# Altium footprint library Connector_Card.PcbLib: 15 footprints
Each footprint in its own frame and in the unit in brackets; x right, y up, seen from the top. Pads: shape width x height; smd on the part's side, far side on the other; paste and mask are expansions set on the pad; w line width, h text height; cw(c..) or ccw(c..) is an arc to the next point about the centre after c.
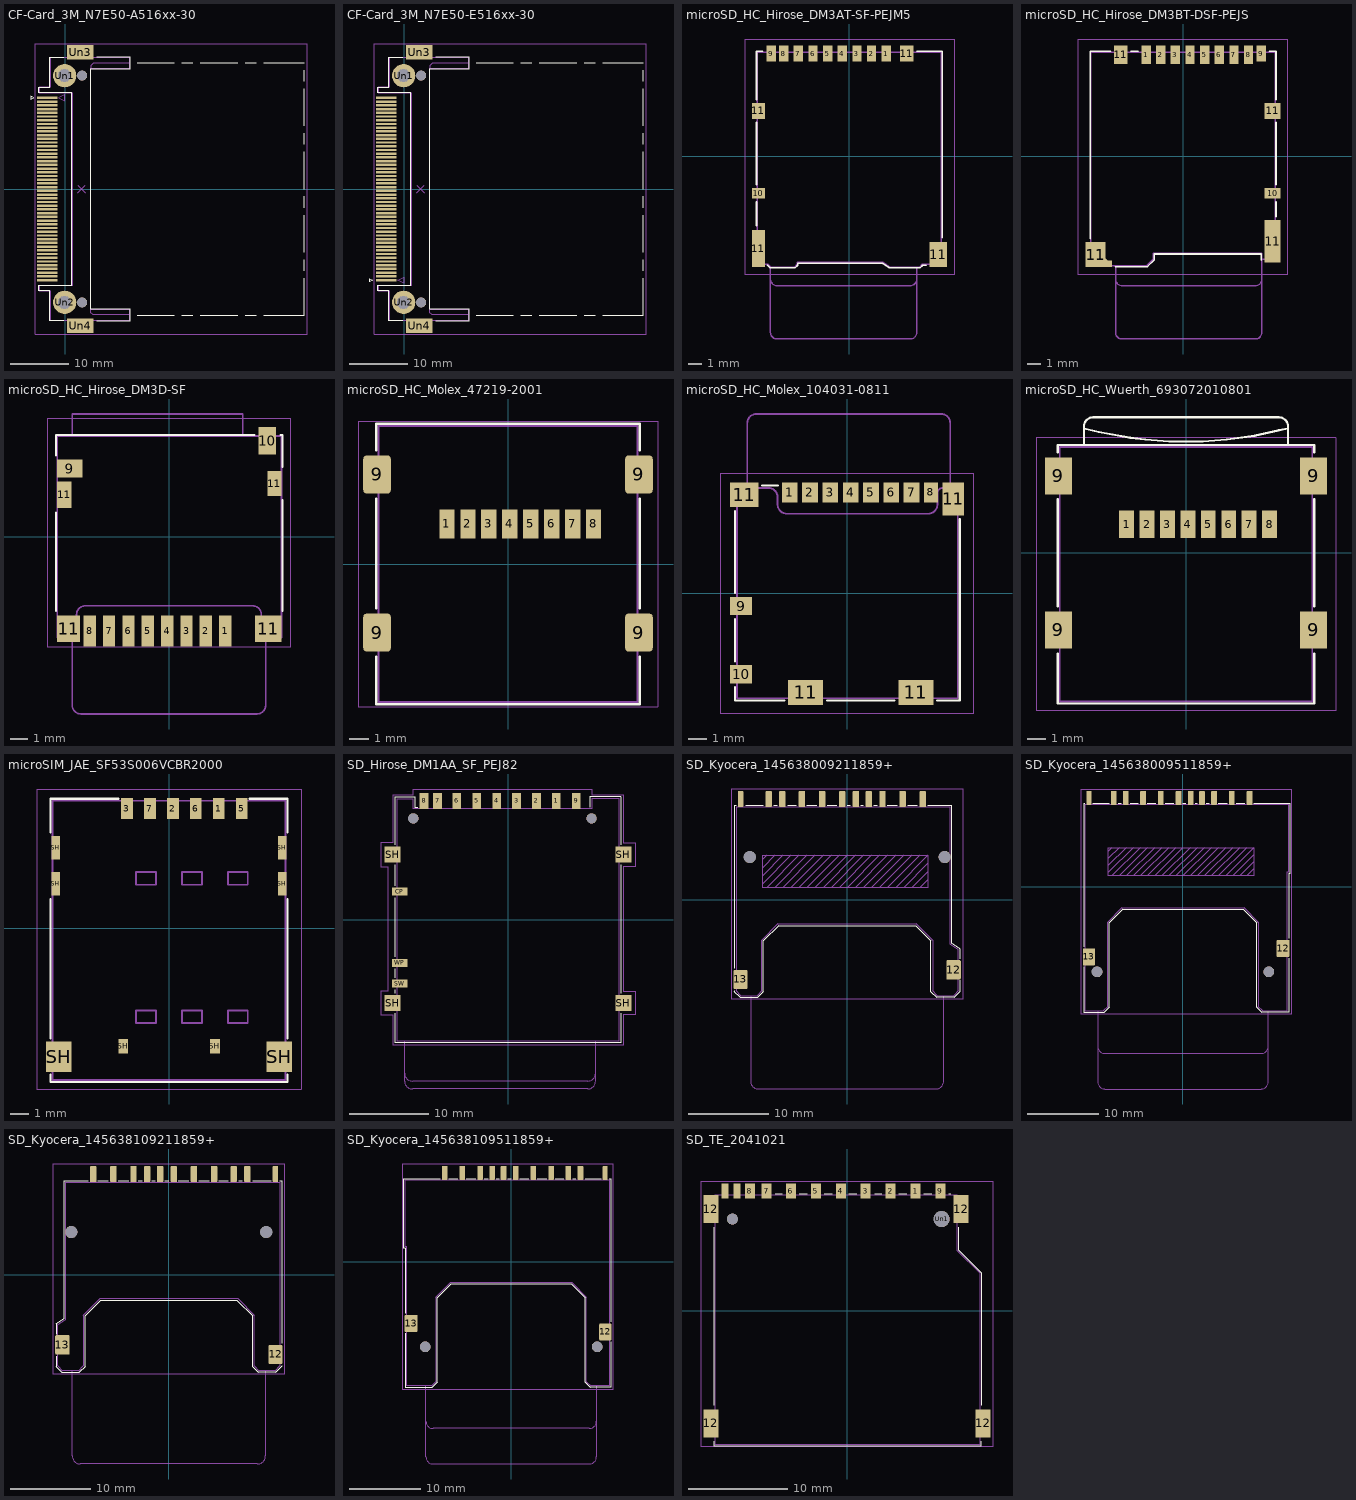
[diagram p0: the footprints below, top view; thin cyan lines are the x and y axes]

## CF-Card_3M_N7E50-A516xx-30 [mm]
pads (56):
  rect 3.51x0.41 smd: 1(-3.1,15.56) 2(-3.1,14.29) 3(-3.1,13.02) 4(-3.1,11.75) 5(-3.1,10.48) 6(-3.1,9.21) 7(-3.1,7.94) 8(-3.1,6.67) 9(-3.1,5.4) 10(-3.1,4.13) 11(-3.1,2.86) 12(-3.1,1.59) 13(-3.1,0.32) 14(-3.1,-0.95) 15(-3.1,-2.22) 16(-3.1,-3.49) 17(-3.1,-4.76) 18(-3.1,-6.03) 19(-3.1,-7.3) 20(-3.1,-8.57) 21(-3.1,-9.84) 22(-3.1,-11.11) 23(-3.1,-12.38) 24(-3.1,-13.65) 25(-3.1,-14.92) 26(-3.1,14.92) 27(-3.1,13.65) 28(-3.1,12.38) 29(-3.1,11.11) 30(-3.1,9.84) 31(-3.1,8.57) 32(-3.1,7.3) 33(-3.1,6.03) 34(-3.1,4.76) 35(-3.1,3.49) 36(-3.1,2.22) 37(-3.1,0.95) 38(-3.1,-0.32) 39(-3.1,-1.59) 40(-3.1,-2.86) 41(-3.1,-4.13) 42(-3.1,-5.4) 43(-3.1,-6.67) 44(-3.1,-7.94) 45(-3.1,-9.21) 46(-3.1,-10.48) 47(-3.1,-11.75) 48(-3.1,-13.02) 49(-3.1,-14.29) 50(-3.1,-15.56)
  round 3.99 hole 2.21: Un1(-0.1,19.37) Un2(-0.1,-19.37)
  rect 4.57x2.49 smd: Un3(2.57,23.34) Un4(2.57,-23.34)
  round 1.7 hole 1.7: Un5(2.9,19.37) Un6(2.9,-19.37)
F.SilkS:
  lines w0.12: -0.28,-22.48 -2.64,-22.48 -2.64,-17.42 -4.52,-17.42 -4.52,-16.41 1.09,-16.41 1.09,16.41 -4.52,16.41 -4.52,17.42 -2.64,17.42 -2.64,22.48 -0.28,22.48 ; 5.41,-22.48 11.08,-22.48 11.08,-20.55 4.4,-20.55 4.4,20.55 11.08,20.55 11.08,22.48 5.41,22.48 ; 12.3,-21.59 18.65,-21.59 ; 12.3,21.59 18.65,21.59 ; 19.92,-21.59 21.82,-21.59 ; 19.92,21.59 21.82,21.59 ; 23.09,-21.59 29.44,-21.59 ; 23.09,21.59 29.44,21.59 ; 30.71,-21.59 32.62,-21.59 ; 30.71,21.59 32.62,21.59 ; 33.89,-21.59 40.87,-21.59 40.87,-15.24 ; 33.89,21.59 40.87,21.59 ; 40.87,-13.97 40.87,-12.06 ; 40.87,-10.79 40.87,-4.45 ; 40.87,-3.17 40.87,-1.27 ; 40.87,0 40.87,6.35 ; 40.87,7.62 40.87,9.53 ; 40.87,10.79 40.87,17.14 ; 40.87,18.41 40.87,20.32 ; -5.85,15.31 -5.85,15.81 -5.35,15.56 -5.85,15.31
F.CrtYd:
  lines w0.05: -5.1,-24.8 -5.1,24.85 41.3,24.85 41.3,-24.8 -5.1,-24.8
F.Fab:
  lines w0.1: 2.14,-0.64 3.41,0.64 ; 2.14,0.64 3.41,-0.64 ; 4.32,20.55 4.32,21.05 4.77,21.5 11.02,21.5 ; 11.02,-21.5 4.77,-21.5 4.37,-21.1 4.32,-21.05 4.32,-20.6 ; 4.32,-20.6 4.32,20.6 11.02,20.6 11.02,22.4 -2.58,22.4 -2.58,17.4 -4.43,17.4 -4.43,16.45 1.17,16.45 1.17,-16.5 -4.43,-16.5 -4.43,-17.35 -2.58,-17.35 -2.58,-22.4 11.02,-22.4 11.02,-20.6 4.32,-20.6 ; -1.1,15.56 -0.1,15.06 -0.1,16.06 -1.1,15.56
  text "'.Designator'" at 1.375,-4.047 h1

## CF-Card_3M_N7E50-E516xx-30 [mm]
pads (56):
  rect 3.51x0.41 smd: 1(-3.1,-15.56) 2(-3.1,-14.29) 3(-3.1,-13.02) 4(-3.1,-11.75) 5(-3.1,-10.48) 6(-3.1,-9.21) 7(-3.1,-7.94) 8(-3.1,-6.67) 9(-3.1,-5.4) 10(-3.1,-4.13) 11(-3.1,-2.86) 12(-3.1,-1.59) 13(-3.1,-0.32) 14(-3.1,0.95) 15(-3.1,2.22) 16(-3.1,3.49) 17(-3.1,4.76) 18(-3.1,6.03) 19(-3.1,7.3) 20(-3.1,8.57) 21(-3.1,9.84) 22(-3.1,11.11) 23(-3.1,12.38) 24(-3.1,13.65) 25(-3.1,14.92) 26(-3.1,-14.92) 27(-3.1,-13.65) 28(-3.1,-12.38) 29(-3.1,-11.11) 30(-3.1,-9.84) 31(-3.1,-8.57) 32(-3.1,-7.3) 33(-3.1,-6.03) 34(-3.1,-4.76) 35(-3.1,-3.49) 36(-3.1,-2.22) 37(-3.1,-0.95) 38(-3.1,0.32) 39(-3.1,1.59) 40(-3.1,2.86) 41(-3.1,4.13) 42(-3.1,5.4) 43(-3.1,6.67) 44(-3.1,7.94) 45(-3.1,9.21) 46(-3.1,10.48) 47(-3.1,11.75) 48(-3.1,13.02) 49(-3.1,14.29) 50(-3.1,15.56)
  round 3.99 hole 2.21: Un1(-0.1,19.37) Un2(-0.1,-19.37)
  rect 4.57x2.49 smd: Un3(2.57,23.34) Un4(2.57,-23.34)
  round 1.7 hole 1.7: Un5(2.9,19.37) Un6(2.9,-19.37)
F.SilkS:
  lines w0.12: -0.28,-22.48 -2.64,-22.48 -2.64,-17.42 -4.52,-17.42 -4.52,-16.41 1.09,-16.41 1.09,16.41 -4.52,16.41 -4.52,17.42 -2.64,17.42 -2.64,22.48 -0.28,22.48 ; 5.41,-22.48 11.08,-22.48 11.08,-20.55 4.4,-20.55 4.4,20.55 11.08,20.55 11.08,22.48 5.41,22.48 ; 12.3,-21.59 18.65,-21.59 ; 12.3,21.59 18.65,21.59 ; 19.92,-21.59 21.82,-21.59 ; 19.92,21.59 21.82,21.59 ; 23.09,-21.59 29.44,-21.59 ; 23.09,21.59 29.44,21.59 ; 30.71,-21.59 32.62,-21.59 ; 30.71,21.59 32.62,21.59 ; 33.89,-21.59 40.87,-21.59 40.87,-15.24 ; 33.89,21.59 40.87,21.59 ; 40.87,-13.97 40.87,-12.06 ; 40.87,-10.79 40.87,-4.45 ; 40.87,-3.17 40.87,-1.27 ; 40.87,0 40.87,6.35 ; 40.87,7.62 40.87,9.53 ; 40.87,10.79 40.87,17.14 ; 40.87,18.41 40.87,20.32 ; -5.85,-15.81 -5.85,-15.31 -5.35,-15.56 -5.85,-15.81
F.CrtYd:
  lines w0.05: -5.1,-24.8 -5.1,24.85 41.3,24.85 41.3,-24.8 -5.1,-24.8
F.Fab:
  lines w0.1: 2.14,-0.64 3.41,0.64 ; 2.14,0.64 3.41,-0.64 ; 4.32,20.55 4.32,21.05 4.77,21.5 11.02,21.5 ; 11.02,-21.5 4.77,-21.5 4.37,-21.1 4.32,-21.05 4.32,-20.6 ; 4.32,-20.6 4.32,20.6 11.02,20.6 11.02,22.4 -2.58,22.4 -2.58,17.4 -4.43,17.4 -4.43,16.45 1.17,16.45 1.17,-16.5 -4.43,-16.5 -4.43,-17.35 -2.58,-17.35 -2.58,-22.4 11.02,-22.4 11.02,-20.6 4.32,-20.6 ; -1.1,-15.56 -0.1,-15.06 -0.1,-16.06 -1.1,-15.56
  text "'.Designator'" at 1.375,-4.047 h1

## microSD_HC_Hirose_DM3AT-SF-PEJM5 [mm]
pads (14):
  rect 0.7x1.2 smd: 1(2.775,7.725) 2(1.675,7.725) 3(0.575,7.725) 4(-0.525,7.725) 5(-1.625,7.725) 6(-2.725,7.725) 7(-3.825,7.725) 8(-4.925,7.725) 9(-5.875,7.725)
  rect 1x0.8 smd: 10(-6.825,-2.775)
  rect 1x2.8 smd: 11(-6.825,-6.925)
  rect 1x1.2 smd: 11(-6.825,3.425) 11(4.325,7.725)
  rect 1.3x1.9 smd: 11(6.675,-7.375)
F.SilkS:
  lines w0.12: -6.975,-5.225 -6.975,-3.425 ; -6.975,-2.125 -6.975,2.575 ; -6.975,4.275 -6.975,7.885 -6.525,7.885 ; -6.145,-8.185 -5.945,-8.385 -4.085,-8.385 -3.875,-8.185 -3.875,-8.035 2.495,-8.035 3.005,-8.385 5.315,-8.385 5.515,-8.185 5.775,-8.185 ; 5.075,7.885 6.995,7.885 6.995,-6.125
F.CrtYd:
  lines w0.05: -7.82,-8.88 -7.82,8.82 7.88,8.82 7.88,-8.88 -7.82,-8.88
F.Fab:
  lines w0.1: -5.925,-9.225 ccw(c-5.425,-9.225) -5.425,-9.725 4.575,-9.725 ccw(c4.575,-9.225) 5.075,-9.225 ; -5.925,-8.325 -5.925,-13.225 ccw(c-5.425,-13.225) -5.425,-13.725 4.575,-13.725 ccw(c4.575,-13.225) 5.075,-13.225 5.075,-8.325 ; -6.925,-8.125 -6.115,-8.125 -5.915,-8.325 -4.115,-8.325 -3.915,-8.125 -3.915,-7.975 2.51,-7.975 3.035,-8.325 5.285,-8.325 5.485,-8.125 6.925,-8.125 6.925,7.825 -6.925,7.825 -6.925,-8.125
  text "'.Designator'" at -4.072,-1.165 h1
Cmts.User:
  text "KEEPOUT" at -6.46,1.373 h0.6
  text "KEEPOUT" at -5.385,-4.252 h0.6
  text "KEEPOUT" at -4.153,1.325 h1
  text "KEEPOUT" at 2.949,-7.91 h0.4

## microSD_HC_Hirose_DM3BT-DSF-PEJS [mm]
pads (16):
  rect 0.7x1.4 smd: 1(-2.775,7.625) 2(-1.675,7.625) 3(-0.575,7.625) 4(0.525,7.625) 5(1.625,7.625) 6(2.725,7.625) 7(3.825,7.625) 8(4.925,7.625)
  rect 0.7x1.2 smd: 9(5.875,7.725)
  rect 1.2x0.8 smd: 10(6.725,-2.775)
  rect 1.5x1.9 smd: 11(-6.575,-7.375)
  rect 0.2x0.2 smd rot 45: 11(-5.825,-7.825)
  rect 0.5x0.5 smd: 11(-5.575,-8.075)
  rect 1x1.4 smd: 11(-4.675,7.625)
  rect 1.2x3.2 smd: 11(6.725,-6.375)
  rect 1.2x1.2 smd: 11(6.725,3.425)
F.SilkS:
  lines w0.12: -6.985,-6.175 -6.985,7.885 -5.425,7.885 ; -5.075,-8.285 -2.675,-8.285 ; -3.925,7.885 -3.375,7.885 ; -2.665,-8.275 -2.165,-7.785 -2.165,-7.335 5.865,-7.335 5.865,-7.785 ; 6.475,7.885 6.985,7.885 6.985,4.275 ; 6.985,-4.525 6.985,-3.425 ; 6.985,-2.125 6.985,2.575
F.CrtYd:
  lines w0.05: -7.88,-8.88 -7.88,8.82 7.82,8.82 7.82,-8.88 -7.88,-8.88
F.Fab:
  lines w0.1: -5.075,-9.225 ccw(c-4.575,-9.225) -4.575,-9.725 5.425,-9.725 ccw(c5.425,-9.225) 5.925,-9.225 ; -5.075,-8.225 -5.075,-13.225 ccw(c-4.575,-13.225) -4.575,-13.725 5.425,-13.725 ccw(c5.425,-13.225) 5.925,-13.225 5.925,-7.275 -2.225,-7.275 -2.225,-7.725 -2.725,-8.225 -6.925,-8.225 -6.925,7.825 6.925,7.825 6.925,-7.725 5.925,-7.725
  text "'.Designator'" at -3.672,-2.365 h1
Cmts.User:
  text "KEEPOUT" at 7.17,1.691 h0.5

## microSD_HC_Hirose_DM3D-SF [mm]
pads (14):
  rect 0.7x1.75 smd: 1(3.175,-5.35) 2(2.075,-5.35) 3(0.975,-5.35) 4(-0.125,-5.35) 5(-1.225,-5.35) 6(-2.325,-5.35) 7(-3.425,-5.35) 8(-4.525,-5.35)
  rect 1.45x1 smd: 9(-5.65,3.875)
  rect 1x1.55 smd: 10(5.575,5.45)
  rect 0.8x1.5 smd: 11(-5.975,2.375)
  rect 1.3x1.5 smd: 11(-5.725,-5.225)
  rect 1.5x1.5 smd: 11(5.625,-5.225)
  rect 0.8x1.4 smd: 11(5.975,3.025)
F.SilkS:
  lines w0.12: -6.435,-4.225 -6.435,1.375 ; -6.435,4.625 -6.435,5.785 4.825,5.785 ; 6.325,5.785 6.435,5.785 6.435,3.975 ; 6.435,-4.225 6.435,2.075
F.CrtYd:
  lines w0.05: -6.92,-6.28 6.88,-6.28 6.88,6.72 -6.92,6.72 -6.92,-6.28
F.Fab:
  lines w0.1: -5.525,5.725 -5.525,6.975 4.175,6.975 4.175,5.725 ; -5.525,-5.725 -5.525,-9.575 ccw(c-5.025,-9.575) -5.025,-10.075 4.975,-10.075 ccw(c4.975,-9.575) 5.475,-9.575 5.475,-5.725 ; -5.525,-5.725 -6.375,-5.725 -6.375,5.725 6.375,5.725 6.375,-5.725 5.475,-5.725 ; -5.525,-5.725 ccw(c-5.525,-5.475) -5.275,-5.475 -5.275,-4.425 cw(c-4.775,-4.425) -4.775,-3.925 4.725,-3.925 cw(c4.725,-4.425) 5.225,-4.425 5.225,-5.475 ccw(c5.475,-5.475) 5.475,-5.725
  text "'.Designator'" at -4.022,-2.265 h1
Cmts.User:
  text "KEEPOUT" at -3.353,-0.075 h1
  text "KEEPOUT" at -1.976,4.54 h0.4

## microSD_HC_Molex_47219-2001 [mm]
pads (12):
  rect 0.8x1.5 smd: 1(-3.205,2.1) 2(-2.105,2.1) 3(-1.005,2.1) 4(0.095,2.1) 5(1.195,2.1) 6(2.295,2.1) 7(3.395,2.1) 8(4.495,2.1)
  rrect25% 1.45x2 smd: 9(-6.875,-3.6) 9(-6.875,4.7) 9(6.875,-3.6) 9(6.875,4.7)
F.SilkS:
  lines w0.12: -6.91,-4.86 -6.91,-7.36 6.91,-7.36 6.91,-4.86 ; -6.91,-2.34 -6.91,3.44 ; -6.91,5.96 -6.91,7.36 6.91,7.36 6.91,5.96 ; 6.91,-2.34 6.91,3.44
F.CrtYd:
  lines w0.05: -7.85,-7.5 -7.85,7.5 7.85,7.5 7.85,-7.5 -7.85,-7.5
F.Fab:
  lines w0.1: -6.8,-7.25 6.8,-7.25 6.8,7.25 -6.8,7.25 -6.8,-7.25
  text "'.Designator'" at -4.047,-0.84 h1

## microSD_HC_Molex_104031-0811 [mm]
pads (14):
  rect 0.85x1.1 smd: 1(-3.105,5.45) 2(-2.005,5.45) 3(-0.905,5.45) 4(0.195,5.45) 5(1.295,5.45) 6(2.395,5.45) 7(3.495,5.45)
  rect 0.75x1.1 smd: 8(4.545,5.45)
  rect 1.2x1 smd: 9(-5.74,-0.7) 10(-5.74,-4.4)
  rect 1.55x1.35 smd: 11(-5.565,5.325)
  rect 1.9x1.35 smd: 11(-2.24,-5.375) 11(3.73,-5.375)
  rect 1.17x1.8 smd: 11(5.755,5.1)
F.SilkS:
  lines w0.12: -6.07,-5.1 -6.07,-5.82 -3.39,-5.82 ; -6.07,-3.7 -6.07,-1.4 ; -6.07,0 -6.07,4.45 ; -4.59,5.82 -3.73,5.82 ; -1.09,-5.82 2.58,-5.82 ; 4.88,-5.82 6.11,-5.82 6.11,4
F.CrtYd:
  lines w0.05: -6.84,-6.55 6.84,-6.55 6.84,6.5 -6.84,6.5 -6.84,-6.55
F.Fab:
  lines w0.1: -5.405,5.7 -5.405,9.2 cw(c-4.905,9.2) -4.905,9.7 5.095,9.7 cw(c5.095,9.2) 5.595,9.2 5.595,5.7 ; 5.2,5.7 ccw(c5.2,5.4) 4.9,5.4 4.9,4.8 cw(c4.4,4.8) 4.4,4.3 -3.26,4.3 cw(c-3.26,4.8) -3.76,4.8 -3.76,5.2 ccw(c-4.26,5.2) -4.26,5.7 -5.955,5.7 -5.955,-5.7 5.995,-5.7 5.995,5.7 5.21,5.7
  text "'.Designator'" at -4.047,-0.84 h1

## microSD_HC_Wuerth_693072010801 [mm]
pads (12):
  rect 0.8x1.5 smd: 1(-3.2,1.55) 2(-2.1,1.55) 3(-1,1.55) 4(0.1,1.55) 5(1.2,1.55) 6(2.3,1.55) 7(3.4,1.55) 8(4.5,1.55)
  rect 1.45x2 smd: 9(-6.875,-4.15) 9(-6.875,4.15) 9(6.875,-4.15) 9(6.875,4.15)
F.SilkS:
  lines w0.12: -6.91,-5.41 -6.91,-8.11 6.91,-8.11 6.91,-5.41 ; -6.91,-2.89 -6.91,2.89 ; -6.91,5.41 -6.91,5.81 6.91,5.81 6.91,5.41 ; -5.5,5.81 -5.5,6.81 cw(c-5,6.81) -5,7.31 5,7.31 cw(c5,6.81) 5.5,6.81 5.5,5.81 ; -5.5,6.71 -4.7,6.51 -3,6.21 -2.2,6.11 -0.9,6.01 0.9,6.01 2.2,6.11 3.7,6.31 5,6.61 5.5,6.71 ; 6.91,-2.89 6.91,2.89
F.CrtYd:
  lines w0.05: -8.08,-8.5 8.08,-8.5 8.08,6.2 -8.08,6.2 -8.08,-8.5
F.Fab:
  lines w0.1: -6.8,-8 -6.8,5.7 6.8,5.7 6.8,-8 -6.8,-8
  text "'.Designator'" at -4.047,-1.99 h1

## microSIM_JAE_SF53S006VCBR2000 [mm]
pads (14):
  rect 0.65x1.15 smd: 1(2.755,6.62) 2(0.215,6.62) 3(-2.325,6.62) 5(4.025,6.62) 6(1.485,6.62) 7(-1.055,6.62)
  rect 0.45x1.3 smd: SH(-6.27,2.45) SH(-6.27,4.45) SH(6.27,2.45) SH(6.27,4.45)
  rect 1.4x1.7 smd: SH(-6.105,-7.11) SH(6.105,-7.11)
  rect 0.54x0.8 smd: SH(-2.535,-6.53) SH(2.545,-6.53)
F.SilkS:
  lines w0.12: -6.56,-8.1 -6.56,-8.51 6.56,-8.51 6.56,-8.1 ; -6.56,-6.1 -6.56,1.6 ; -6.56,5.3 -6.56,7.16 -2.8,7.16 ; 4.45,7.16 6.56,7.16 6.56,5.3 ; 6.56,-6.1 6.56,1.6
Dwgs.User:
  lines w0.1: -1.82,-5.25 -0.72,-5.25 -0.72,-4.55 -1.82,-4.55 -1.82,-5.25 ; -1.82,2.4 -1.82,3.1 -0.72,3.1 -0.72,2.4 -1.82,2.4 ; 0.72,-5.25 1.82,-5.25 1.82,-4.55 0.72,-4.55 0.72,-5.25 ; 0.72,2.4 1.82,2.4 1.82,3.1 0.72,3.1 0.72,2.4 ; 3.26,-5.25 4.36,-5.25 4.36,-4.55 3.26,-4.55 3.26,-5.25 ; 3.26,2.4 3.26,3.1 4.36,3.1 4.36,2.4 3.26,2.4
F.CrtYd:
  lines w0.05: -7.31,-8.9 -7.31,7.7 7.31,7.7 7.31,-8.9 -7.31,-8.9
F.Fab:
  lines w0.1: -6.45,-8.4 6.45,-8.4 6.45,7.05 -6.45,7.05 -6.45,-8.4
  text "'.Designator'" at -4.047,-0.84 h1

## SD_Hirose_DM1AA_SF_PEJ82 [mm]
pads (18):
  rect 1.1x2 smd: 1(6.075,14.95) 2(3.575,14.95) 3(1.075,14.95) 4(-1.425,14.95) 5(-3.925,14.95) 6(-6.425,14.95) 7(-8.85,14.95) 8(-10.55,14.95) 9(8.575,14.95)
  rect 2x1 smd: CP(-13.6,3.55) SW(-13.6,-8) WP(-13.6,-5.4)
  rect 2x2 smd: SH(-14.5,-10.45) SH(-14.5,8.2) SH(14.5,-10.45) SH(14.5,8.2)
  round 1.3 hole 1.3: Un1(10.5,12.75) Un2(-11.9,12.75)
F.SilkS:
  lines w0.12: -14.2,-11.71 -14.2,-15.45 14.2,-15.45 14.2,-11.71 ; -14.2,-9.19 -14.2,-8.76 ; -14.2,-7.24 -14.2,-6.16 ; -14.2,-4.63 -14.2,2.79 ; -14.2,4.31 -14.2,6.94 ; -14.2,9.46 -14.2,15.45 -11.7,15.45 -11.7,14.15 -11.36,14.15 ; 10.3,14.15 10.3,15.45 14.2,15.45 14.2,9.46 ; 14.19,6.94 14.2,-9.19
Dwgs.User:
  lines w0.1: -13,-19.25 ccw(c-12,-19.25) -12,-20.25 10,-20.25 ccw(c10,-19.25) 11,-19.25 ; -13,-15.25 -13,-20.25 ccw(c-12,-20.25) -12,-21.25 10,-21.25 ccw(c10,-20.25) 11,-20.25 11,-15.25
F.CrtYd:
  lines w0.05: -16,-11.95 -16,-8.95 -15.1,-8.95 -15.1,6.7 -16,6.7 -16,9.7 -14.5,9.7 -14.5,15.75 -11.9,15.75 -11.9,16.45 10.5,16.45 10.5,15.75 14.5,15.75 14.5,9.7 16,9.7 16,6.7 14.5,6.7 14.5,-8.95 16,-8.95 16,-11.95 14.5,-11.95 14.5,-15.75 -14.5,-15.75 -14.5,-11.95 -16,-11.95
F.Fab:
  lines w0.1: -14,-15.25 -14,15.25 -11.9,15.25 -11.9,13.95 10.5,13.95 10.5,15.25 14,15.25 14,-15.25 -14,-15.25
  text "'.Designator'" at -4.047,-0.84 h1

## SD_Kyocera_145638009211859+ [mm]
pads (15):
  rrect31% 0.8x2 smd: 1(6.88,12.5) 2(4.38,12.5) 3(1.08,12.5) 4(-0.62,12.5) 5(-3.12,12.5) 6(-5.62,12.5) 7(-8.05,12.5) 8(-9.75,12.5) 9(9.38,12.5) 10(2.68,12.5)
  rrect36% 0.7x2 smd: 11(-13.24,12.5)
  rrect14% 1.8x2.4 smd: 12(13.2,-8.7)
  rrect15% 1.7x2.4 smd: 13(-13.25,-9.9)
  round 1.5 hole 1.5: Un1(12.1,5.3) Un2(-12.1,5.3)
F.SilkS:
  lines w0.12: -14,-11.3 -14,-11.4 -13.3,-12.1 -11.1,-12.1 -10.4,-11.4 -10.4,-5.1 -8.5,-3.2 8.5,-3.2 10.4,-5.1 10.4,-11.4 11.1,-12.1 13.3,-12.1 14,-11.4 14,-10 ; -14,-8.5 -14,11.7 -13.8,11.7 ; -12.6,11.7 -10.4,11.7 ; -9.1,11.7 -8.7,11.7 ; -7.4,11.7 -6.3,11.7 ; -5,11.7 -3.8,11.7 ; -2.5,11.7 -1.3,11.7 ; 0,11.7 0.4,11.7 ; 1.7,11.7 2,11.7 ; 3.3,11.7 3.7,11.7 ; 5,11.7 6.2,11.7 ; 7.5,11.7 8.7,11.7 ; 10,11.7 13,11.7 13,-5.4 14,-6.1 14,-7.3
Dwgs.User:
  lines w0.1: -12,-11.9 -12,-22.5 ccw(c-11,-22.5) -11,-23.5 11,-23.5 ccw(c11,-22.5) 12,-22.5 12,-11.9 ; -10.5,2 -7,5.5 ; -10.5,3 -8,5.5 ; -10.5,4 -9,5.5 ; -10.5,5 -10,5.5 ; -10,1.5 -6,5.5 ; -9,1.5 -5,5.5 ; -8,1.5 -4,5.5 ; -7,1.5 -3,5.5 ; -6,1.5 -2,5.5 ; -5,1.5 -1,5.5 ; -4,1.5 0,5.5 ; -3,1.5 1,5.5 ; -2,1.5 2,5.5 ; -1,1.5 3,5.5 ; 0,1.5 4,5.5 ; 1,1.5 5,5.5 ; 2,1.5 6,5.5 ; 3,1.5 7,5.5 ; 4,1.5 8,5.5 ; 5,1.5 9,5.5 ; 6,1.5 10,5.5 ; 7,1.5 10,4.5 ; 8,1.5 10,3.5 ; 9,1.5 10,2.5 ; 10,5.5 -10.5,5.5 -10.5,1.5 10,1.5 10,5.5
F.CrtYd:
  lines w0.05: -14.35,-12.35 14.35,-12.35 14.35,13.75 -14.35,13.75 -14.35,-12.35
F.Fab:
  lines w0.1: -13.8,-11.3 -13.2,-11.9 -11.2,-11.9 -10.6,-11.3 -10.6,-5 -8.6,-3 8.6,-3 10.6,-5 10.6,-11.3 11.2,-11.9 13.2,-11.9 13.8,-11.3 13.8,-6.2 12.8,-5.5 12.8,11.5 -13.8,11.5 -13.8,-11.3
  text "'.Designator'" at -4.047,-2.54 h1
Cmts.User:
  text "Copper Keep Out" at -5.97,2.583 h1

## SD_Kyocera_145638009511859+ [mm]
pads (15):
  rrect31% 0.8x2 smd: 1(6.88,12.5) 2(4.38,12.5) 3(1.08,12.5) 4(-0.62,12.5) 5(-3.12,12.5) 6(-5.62,12.5) 7(-8.05,12.5) 8(-9.75,12.5) 9(9.38,12.5) 10(2.68,12.5)
  rrect36% 0.7x2 smd: 11(-13.24,12.5)
  rrect14% 1.8x2.4 smd: 12(14.1,-8.7)
  rrect15% 1.7x2.4 smd: 13(-13.25,-9.9)
  round 1.5 hole 1.5: Un1(12.1,-12) Un2(-12.1,-12)
F.SilkS:
  lines w0.12: -14,-11.3 -14,-17.7 -11.1,-17.7 -10.4,-17 -10.4,-5.1 -8.5,-3.2 8.5,-3.2 10.4,-5.1 10.4,-17 11.1,-17.7 14.9,-17.7 14.9,-10.1 ; -14,-8.5 -14,11.7 -13.8,11.7 ; -12.7,11.7 -10.4,11.7 ; -9.1,11.7 -8.7,11.7 ; -7.4,11.7 -6.3,11.7 ; -5,11.7 -3.8,11.7 ; -2.5,11.7 -1.3,11.7 ; 0,11.7 0.4,11.7 ; 1.7,11.7 2,11.7 ; 3.3,11.7 3.7,11.7 ; 5,11.7 6.2,11.7 ; 7.5,11.7 8.7,11.7 ; 10,11.7 15.1,11.7 15.1,1.9 14.9,1.9 14.9,-7.3
Dwgs.User:
  lines w0.1: -12,-22.5 ccw(c-11,-22.5) -11,-23.5 11,-23.5 ccw(c11,-22.5) 12,-22.5 ; -12,-17.5 -12,-27.5 ccw(c-11,-27.5) -11,-28.5 11,-28.5 ccw(c11,-27.5) 12,-27.5 12,-17.5 ; -10.5,2 -7,5.5 ; -10.5,3 -8,5.5 ; -10.5,4 -9,5.5 ; -10.5,5 -10,5.5 ; -10,1.5 -6,5.5 ; -9,1.5 -5,5.5 ; -8,1.5 -4,5.5 ; -7,1.5 -3,5.5 ; -6,1.5 -2,5.5 ; -5,1.5 -1,5.5 ; -4,1.5 0,5.5 ; -3,1.5 1,5.5 ; -2,1.5 2,5.5 ; -1,1.5 3,5.5 ; 0,1.5 4,5.5 ; 1,1.5 5,5.5 ; 2,1.5 6,5.5 ; 3,1.5 7,5.5 ; 4,1.5 8,5.5 ; 5,1.5 9,5.5 ; 6,1.5 10,5.5 ; 7,1.5 10,4.5 ; 8,1.5 10,3.5 ; 9,1.5 10,2.5 ; 10,5.5 -10.5,5.5 -10.5,1.5 10,1.5 10,5.5
F.CrtYd:
  lines w0.05: -14.35,-17.95 -14.35,13.75 15.25,13.75 15.25,-17.95 -14.35,-17.95
F.Fab:
  lines w0.1: -13.8,-17.5 -13.8,11.5 14.9,11.5 14.9,2.1 14.7,2.1 14.7,-17.5 11.2,-17.5 10.6,-16.9 10.6,-5 8.6,-3 -8.6,-3 -10.6,-5 -10.6,-16.9 -11.2,-17.5 -13.8,-17.5
  text "'.Designator'" at -4.047,-2.54 h1
Cmts.User:
  text "Copper Keep Out" at -5.97,2.583 h1

## SD_Kyocera_145638109211859+ [mm]
pads (15):
  rrect31% 0.8x2 smd: 1(-6.88,12.5) 2(-4.38,12.5) 3(-1.08,12.5) 4(0.62,12.5) 5(3.12,12.5) 6(5.62,12.5) 7(8.05,12.5) 8(9.75,12.5) 9(-9.38,12.5) 10(-2.68,12.5)
  rrect36% 0.7x2 smd: 11(13.24,12.5)
  rrect15% 1.7x2.4 smd: 12(13.25,-9.9)
  rrect14% 1.8x2.4 smd: 13(-13.2,-8.7)
  round 1.5 hole 1.5: Un1(-12.1,5.3) Un2(12.1,5.3)
F.SilkS:
  lines w0.12: -14,-10.1 -14,-11.4 -13.3,-12.1 -11.1,-12.1 -10.4,-11.4 -10.4,-5.1 -8.5,-3.2 8.5,-3.2 10.4,-5.1 10.4,-11.4 11.1,-12.1 13.26,-12.1 ; -14,-7.4 -14,-6.1 -13,-5.4 -13,11.7 -10,11.7 ; -8.8,11.7 -7.5,11.7 ; -6.3,11.7 -5,11.7 ; -3.8,11.7 -3.3,11.7 ; -2.1,11.7 -1.7,11.7 ; -0.5,11.7 0,11.7 ; 1.2,11.7 2.5,11.7 ; 3.7,11.7 5,11.7 ; 6.2,11.7 7.4,11.7 ; 8.7,11.7 9.1,11.7 ; 10.4,11.7 12.7,11.7 ; 13.3,-12.1 14,-11.36 14,-11.28 ; 13.8,11.7 14,11.7 14,-8.5
Dwgs.User:
  lines w0.1: -12,-11.9 -12,-22.5 ccw(c-11,-22.5) -11,-23.5 11,-23.5 ccw(c11,-22.5) 12,-22.5 12,-11.9
F.CrtYd:
  lines w0.05: -14.35,-12.35 -14.35,13.75 14.35,13.75 14.35,-12.35 -14.35,-12.35
F.Fab:
  lines w0.1: -13.8,-11.3 -13.2,-11.9 -11.2,-11.9 -10.6,-11.3 -10.6,-5 -8.6,-3 8.6,-3 10.6,-5 10.6,-11.3 11.2,-11.9 13.2,-11.9 13.8,-11.3 13.8,11.5 -12.8,11.5 -12.8,-5.5 -13.8,-6.2 -13.8,-11.3
  text "'.Designator'" at -4.047,-0.62 h1

## SD_Kyocera_145638109511859+ [mm]
pads (15):
  rrect31% 0.8x2 smd: 1(-6.88,12.5) 2(-4.38,12.5) 3(-1.08,12.5) 4(0.62,12.5) 5(3.12,12.5) 6(5.62,12.5) 7(8.05,12.5) 8(9.75,12.5) 9(-9.38,12.5) 10(-2.68,12.5)
  rrect36% 0.7x2 smd: 11(13.24,12.5)
  rrect15% 1.7x2.4 smd: 12(13.25,-9.9)
  rrect14% 1.8x2.4 smd: 13(-14.1,-8.7)
  round 1.5 hole 1.5: Un1(12.1,-12) Un2(-12.1,-12)
F.SilkS:
  lines w0.12: -14.9,-10.1 -14.9,-17.7 -11.1,-17.7 -10.4,-17 -10.4,-5.1 -8.5,-3.2 8.5,-3.2 10.4,-5.1 10.4,-17 11.1,-17.7 14,-17.7 14,-11.3 ; -14.9,-7.3 -14.9,1.9 -15.1,1.9 -15.1,11.7 -10,11.7 ; -8.8,11.7 -7.5,11.7 ; -6.3,11.7 -5,11.7 ; -3.8,11.7 -3.26,11.7 ; -2.1,11.7 -1.7,11.7 ; -0.5,11.7 0,11.7 ; 1.2,11.7 2.5,11.7 ; 3.7,11.7 5,11.7 ; 6.2,11.7 7.4,11.7 ; 8.7,11.7 9.1,11.7 ; 10.4,11.7 12.7,11.7 ; 13.8,11.7 14,11.7 14,-8.5
Dwgs.User:
  lines w0.1: -12,-22.5 ccw(c-11,-22.5) -11,-23.5 11,-23.5 ccw(c11,-22.5) 12,-22.5 ; -12,-17.5 -12,-27.5 ccw(c-11,-27.5) -11,-28.5 11,-28.5 ccw(c11,-27.5) 12,-27.5 12,-17.5
F.CrtYd:
  lines w0.05: -15.35,-17.95 -15.35,13.75 14.35,13.75 14.35,-17.95 -15.35,-17.95
F.Fab:
  lines w0.1: -14.9,2.1 -14.7,2.1 -14.7,-17.5 -11.2,-17.5 -10.6,-16.9 -10.6,-5 -8.6,-3 8.6,-3 10.6,-5 10.6,-16.9 11.2,-17.5 13.8,-17.5 13.8,11.5 -14.9,11.5 -14.9,2.1
  text "'.Designator'" at -4.047,-2.54 h1

## SD_TE_2041021 [mm]
pads (17):
  rect 1x1.5 smd: 1(6.875,11.975) 2(4.375,11.975) 3(1.875,11.975) 4(-0.625,11.975) 5(-3.125,11.975) 6(-5.625,11.975) 7(-8.055,11.975) 8(-9.755,11.975) 9(9.375,11.975)
  rect 0.7x1.5 smd: 10(-11.055,11.975) 11(-12.255,11.975)
  rect 1.5x2.8 smd: 12(-13.65,-11.325) 12(-13.65,10.175) 12(11.45,10.175) 12(13.65,-11.325)
  round 1.6 hole 1.6: Un1(9.5,9.175)
  round 1.1 hole 1.1: Un2(-11.5,9.175)
F.SilkS:
  lines w0.12: -13.37,-13.125 -13.37,-13.545 13.47,-13.545 13.47,-13.125 ; -13.37,-9.525 -13.37,8.375 ; -7.2,11.695 -6.5,11.695 ; -4.8,11.695 -4,11.695 ; -2.3,11.695 -1.5,11.695 ; 0.2,11.695 1,11.695 ; 2.8,11.695 3.5,11.695 ; 5.2,11.695 6,11.695 ; 7.7,11.695 8.5,11.695 ; 10.2,11.695 10.4,11.695 ; 11.17,8.375 11.17,6.075 13.47,3.775 13.47,-9.525
F.CrtYd:
  lines w0.05: -14.65,-13.68 14.65,-13.68 14.65,12.98 -14.65,12.98 -14.65,-13.68
F.Fab:
  lines w0.1: -13.25,-13.425 -13.25,11.575 11.05,11.575 11.05,6.015 13.35,3.715 13.35,-13.425 -13.25,-13.425
  text "'.Designator'" at -4.047,-2.84 h1
Cmts.User:
  text "KEEPOUT" at -3.128,2.91 h1